# Altium footprint library con-yamaichi.PCBLIB: 44 footprints (part 2 of 3)
Each footprint in its own frame and in the unit in brackets; x right, y up, seen from the top. Pads: shape width x height; smd on the part's side, far side on the other; paste and mask are expansions set on the pad; w line width, h text height; cw(c..) or ccw(c..) is an arc to the next point about the centre after c.
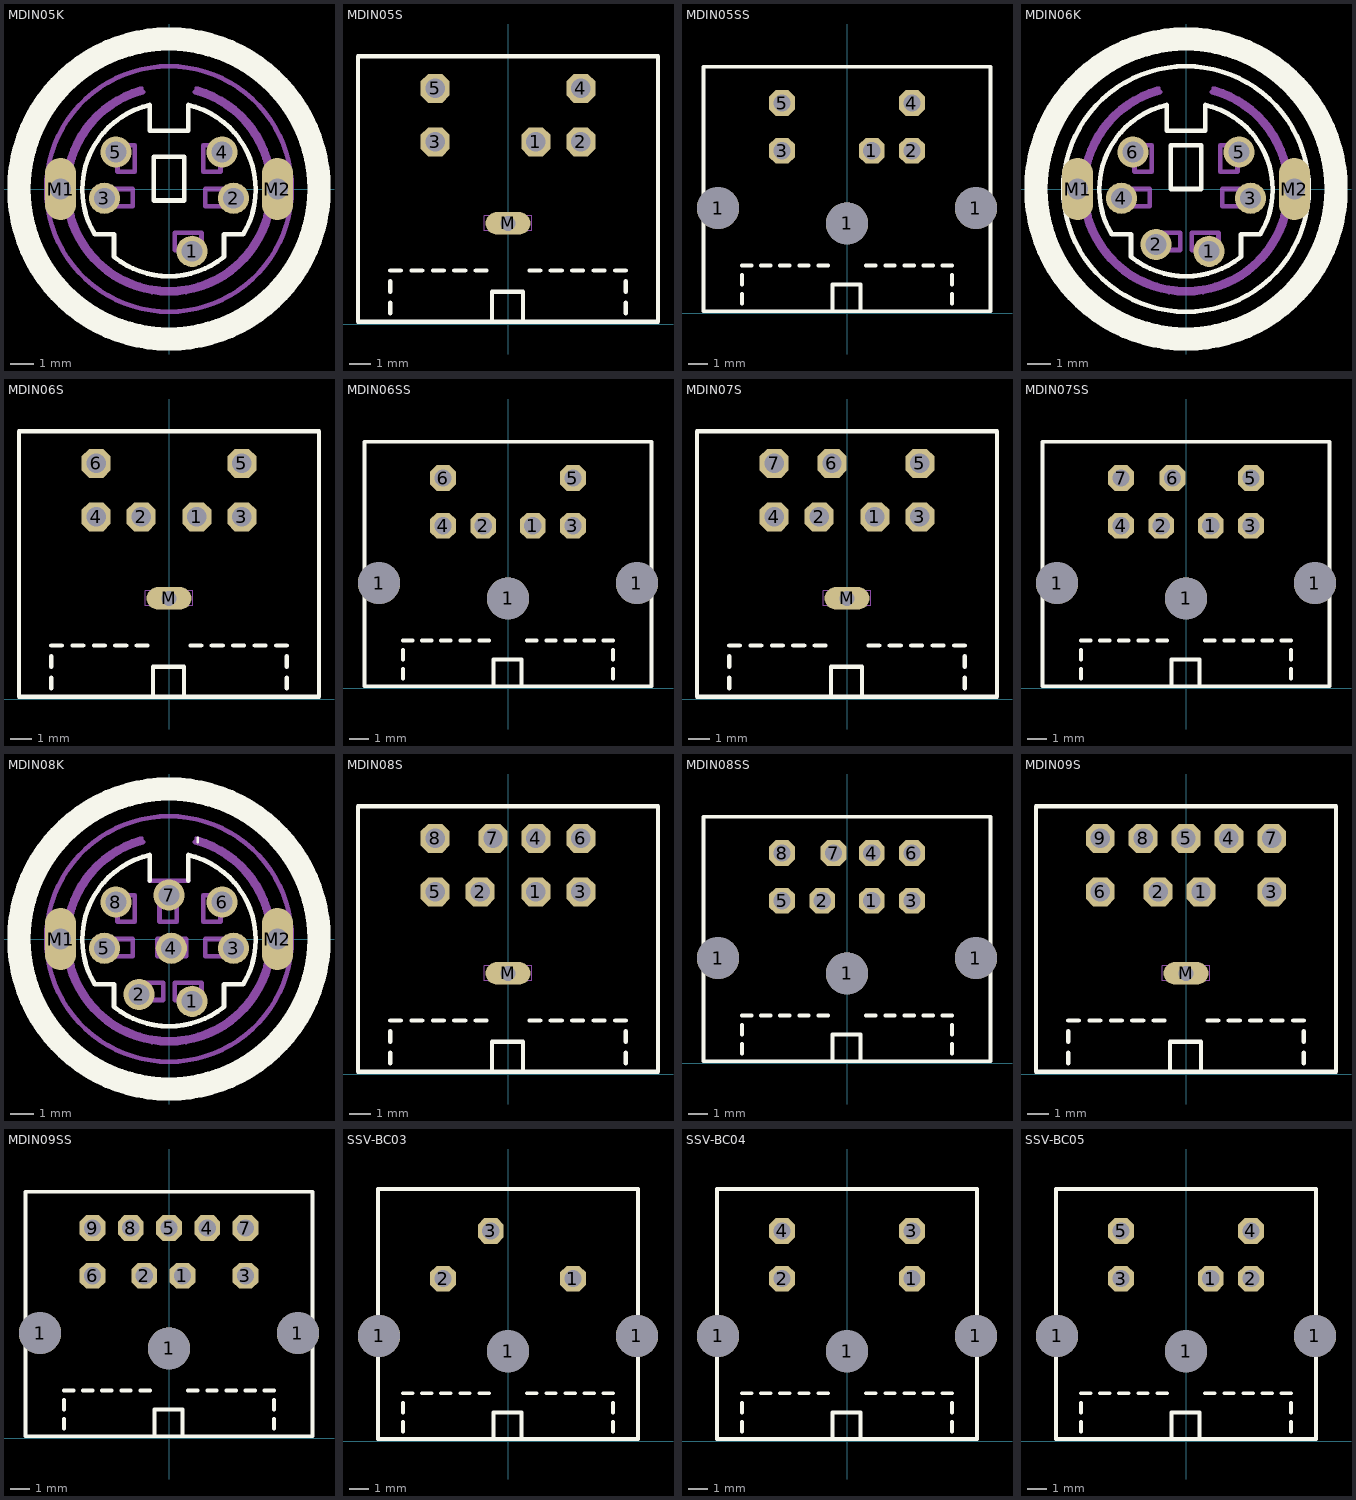
[diagram p1: the footprints below, top view; thin cyan lines are the x and y axes]

## MDIN05K [mm]
pads (7):
  round 1.35 hole 0.9: 1(1,-2.7) 2(2.8,-0.4) 3(-2.8,-0.4) 4(2.3,1.6) 5(-2.3,1.6)
  oval 1.35x2.7 hole 0.9: M1(-4.7,0) M2(4.7,0)
Top Overlay:
  circle w1.016: c0,0 r6.5
  lines w0.203: -3.22,-1.96 -2.38,-1.96 -2.38,-2.94 ccw(c0,0) 2.38,-2.94 2.38,-1.96 3.22,-1.96 ccw(c0,-0.023) 0.84,3.64 0.84,2.52 -0.84,2.52 -0.84,3.64 ccw(c0,-0.023) -3.22,-1.96 ; -0.662,-0.5 -0.662,1.402 0.662,1.402 0.662,-0.5 -0.662,-0.5
Mechanical 16:
  circle w0.203: c0,0 r5.32
  lines w0.102: -1.25,4.2 -1.25,4.4 -1.15,4.4 -1.15,4.15 ; 1.15,4.15 1.15,4.4 1.25,4.4 1.25,4.2
  lines w0.203: -1.26,4.34 ccw(c0,0) 1.26,4.34 ; -1.12,4.2 ccw(c0,0) 1.12,4.2 ; -2.729,-0.744 -1.571,-0.744 -1.571,0 -2.729,0 -2.729,-0.744 ; -2.233,0.744 -2.233,1.902 -1.489,1.902 -1.489,0.744 -2.233,0.744 ; 0.248,-2.646 1.406,-2.646 1.406,-1.902 0.248,-1.902 0.248,-2.646 ; 1.489,0.744 1.489,1.902 2.233,1.902 2.233,0.744 1.489,0.744 ; 1.571,-0.744 2.729,-0.744 2.729,0 1.571,0 1.571,-0.744

## MDIN05S [mm]
pads (6):
  oct 1.35x1.35 hole 0.9: 1(1.3,8.5) 2(3.4,8.5) 3(-3.4,8.5) 4(3.4,11) 5(-3.4,11)
  oval 2.1x1.05 hole 0.7: M(0,4.7)
Top Overlay:
  lines w0.203: -5.5,0.5 -5.5,1 ; -5.5,1.5 -5.5,2 ; -5.5,2.5 -5,2.5 ; -4.5,2.5 -4,2.5 ; -3.5,2.5 -3,2.5 ; -2.5,2.5 -2,2.5 ; -1.5,2.5 -1,2.5 ; -0.75,0.1 -0.75,1.5 0.7,1.5 0.7,0.1 ; 1,2.5 1.5,2.5 ; 2,2.5 2.5,2.5 ; 3,2.5 3.5,2.5 ; 4,2.5 4.5,2.5 ; 5,2.5 5.5,2.5 ; 5.5,0.5 5.5,1 ; 5.5,1.5 5.5,2 ; -7,0.1 7,0.1 7,12.5 -7,12.5 -7,0.1
Mechanical 11:
  lines w0: -1.1,4.35 1.1,4.35 1.1,5.05 -1.1,5.05 -1.1,4.35

## MDIN05SS [mm]
pads (8):
  round 2.2 hole 2.2: 1(-6.75,5.5) 1(0,4.7) 1(6.75,5.5)
  oct 1.35x1.35 hole 0.9: 1(1.3,8.5) 2(3.4,8.5) 3(-3.4,8.5) 4(3.4,11) 5(-3.4,11)
Top Overlay:
  lines w0.203: -5.5,0.5 -5.5,1 ; -5.5,1.5 -5.5,2 ; -5.5,2.5 -5,2.5 ; -4.5,2.5 -4,2.5 ; -3.5,2.5 -3,2.5 ; -2.5,2.5 -2,2.5 ; -1.5,2.5 -1,2.5 ; -0.75,0.1 -0.75,1.5 0.7,1.5 0.7,0.1 ; 1,2.5 1.5,2.5 ; 2,2.5 2.5,2.5 ; 3,2.5 3.5,2.5 ; 4,2.5 4.5,2.5 ; 5,2.5 5.5,2.5 ; 5.5,0.5 5.5,1 ; 5.5,1.5 5.5,2 ; -7.5,0.1 7.5,0.1 7.5,12.9 -7.5,12.9 -7.5,0.1

## MDIN06K [mm]
pads (8):
  round 1.35 hole 0.9: 1(1,-2.7) 2(-1.3,-2.4) 3(2.8,-0.4) 4(-2.8,-0.4) 5(2.3,1.6) 6(-2.3,1.6)
  oval 1.35x2.7 hole 0.9: M1(-4.7,0) M2(4.7,0)
Top Overlay:
  circle w1.016: c0,0 r6.5
  circle w0.203: c0,0 r5.32
  lines w0.203: -3.22,-1.96 -2.38,-1.96 -2.38,-2.94 ccw(c0,0) 2.38,-2.94 2.38,-1.96 3.22,-1.96 ccw(c0,-0.023) 0.84,3.64 0.84,2.52 -0.84,2.52 -0.84,3.64 ccw(c0,-0.023) -3.22,-1.96 ; -0.662,0 -0.662,1.902 0.662,1.902 0.662,0 -0.662,0
Mechanical 16:
  lines w0.102: -1.25,4.2 -1.25,4.4 -1.15,4.4 -1.15,4.15 ; 1.15,4.15 1.15,4.4 1.25,4.4 1.25,4.2
  lines w0.203: -1.26,4.34 ccw(c0,0) 1.26,4.34 ; -1.12,4.2 ccw(c0,0) 1.12,4.2 ; -2.729,-0.744 -1.571,-0.744 -1.571,0 -2.729,0 -2.729,-0.744 ; -2.233,0.744 -2.233,1.902 -1.489,1.902 -1.489,0.744 -2.233,0.744 ; -1.489,-2.646 -0.248,-2.646 -0.248,-1.902 -1.489,-1.902 -1.489,-2.646 ; 0.248,-2.646 1.406,-2.646 1.406,-1.902 0.248,-1.902 0.248,-2.646 ; 1.489,0.744 1.489,1.902 2.233,1.902 2.233,0.744 1.489,0.744 ; 1.571,-0.744 2.729,-0.744 2.729,0 1.571,0 1.571,-0.744

## MDIN06S [mm]
pads (7):
  oct 1.35x1.35 hole 0.9: 1(1.3,8.5) 2(-1.3,8.5) 3(3.4,8.5) 4(-3.4,8.5) 5(3.4,11) 6(-3.4,11)
  oval 2.1x1.05 hole 0.7: M(0,4.7)
Top Overlay:
  lines w0.203: -5.5,0.5 -5.5,1 ; -5.5,1.5 -5.5,2 ; -5.5,2.5 -5,2.5 ; -4.5,2.5 -4,2.5 ; -3.5,2.5 -3,2.5 ; -2.5,2.5 -2,2.5 ; -1.5,2.5 -1,2.5 ; -0.75,0.1 -0.75,1.5 0.7,1.5 0.7,0.1 ; 1,2.5 1.5,2.5 ; 2,2.5 2.5,2.5 ; 3,2.5 3.5,2.5 ; 4,2.5 4.5,2.5 ; 5,2.5 5.5,2.5 ; 5.5,0.5 5.5,1 ; 5.5,1.5 5.5,2 ; -7,0.1 7,0.1 7,12.5 -7,12.5 -7,0.1
Mechanical 11:
  lines w0: -1.1,4.35 1.1,4.35 1.1,5.05 -1.1,5.05 -1.1,4.35

## MDIN06SS [mm]
pads (9):
  round 2.2 hole 2.2: 1(-6.75,5.5) 1(0,4.7) 1(6.75,5.5)
  oct 1.35x1.35 hole 0.9: 1(1.3,8.5) 2(-1.3,8.5) 3(3.4,8.5) 4(-3.4,8.5) 5(3.4,11) 6(-3.4,11)
Top Overlay:
  lines w0.203: -5.5,0.5 -5.5,1 ; -5.5,1.5 -5.5,2 ; -5.5,2.5 -5,2.5 ; -4.5,2.5 -4,2.5 ; -3.5,2.5 -3,2.5 ; -2.5,2.5 -2,2.5 ; -1.5,2.5 -1,2.5 ; -0.75,0.1 -0.75,1.5 0.7,1.5 0.7,0.1 ; 1,2.5 1.5,2.5 ; 2,2.5 2.5,2.5 ; 3,2.5 3.5,2.5 ; 4,2.5 4.5,2.5 ; 5,2.5 5.5,2.5 ; 5.5,0.5 5.5,1 ; 5.5,1.5 5.5,2 ; -7.5,0.1 7.5,0.1 7.5,12.9 -7.5,12.9 -7.5,0.1

## MDIN07S [mm]
pads (8):
  oct 1.35x1.35 hole 0.9: 1(1.3,8.5) 2(-1.3,8.5) 3(3.4,8.5) 4(-3.4,8.5) 5(3.4,11) 6(-0.7,11) 7(-3.4,11)
  oval 2.1x1.05 hole 0.7: M(0,4.7)
Top Overlay:
  lines w0.203: -5.5,0.5 -5.5,1 ; -5.5,1.5 -5.5,2 ; -5.5,2.5 -5,2.5 ; -4.5,2.5 -4,2.5 ; -3.5,2.5 -3,2.5 ; -2.5,2.5 -2,2.5 ; -1.5,2.5 -1,2.5 ; -0.75,0.1 -0.75,1.5 0.7,1.5 0.7,0.1 ; 1,2.5 1.5,2.5 ; 2,2.5 2.5,2.5 ; 3,2.5 3.5,2.5 ; 4,2.5 4.5,2.5 ; 5,2.5 5.5,2.5 ; 5.5,0.5 5.5,1 ; 5.5,1.5 5.5,2 ; -7,0.1 7,0.1 7,12.5 -7,12.5 -7,0.1
Mechanical 11:
  lines w0: -1.1,4.35 1.1,4.35 1.1,5.05 -1.1,5.05 -1.1,4.35

## MDIN07SS [mm]
pads (10):
  round 2.2 hole 2.2: 1(-6.75,5.5) 1(0,4.7) 1(6.75,5.5)
  oct 1.35x1.35 hole 0.9: 1(1.3,8.5) 2(-1.3,8.5) 3(3.4,8.5) 4(-3.4,8.5) 5(3.4,11) 6(-0.7,11) 7(-3.4,11)
Top Overlay:
  lines w0.203: -5.5,0.5 -5.5,1 ; -5.5,1.5 -5.5,2 ; -5.5,2.5 -5,2.5 ; -4.5,2.5 -4,2.5 ; -3.5,2.5 -3,2.5 ; -2.5,2.5 -2,2.5 ; -1.5,2.5 -1,2.5 ; -0.75,0.1 -0.75,1.5 0.7,1.5 0.7,0.1 ; 1,2.5 1.5,2.5 ; 2,2.5 2.5,2.5 ; 3,2.5 3.5,2.5 ; 4,2.5 4.5,2.5 ; 5,2.5 5.5,2.5 ; 5.5,0.5 5.5,1 ; 5.5,1.5 5.5,2 ; -7.5,0.1 7.5,0.1 7.5,12.9 -7.5,12.9 -7.5,0.1

## MDIN08K [mm]
pads (10):
  round 1.35 hole 0.9: 1(1,-2.7) 2(-1.3,-2.4) 3(2.8,-0.4) 4(0.1,-0.4) 5(-2.8,-0.4) 6(2.3,1.6) 7(0,1.9) 8(-2.3,1.6)
  oval 1.35x2.7 hole 0.9: M1(-4.7,0) M2(4.7,0)
Top Overlay:
  circle w1.016: c0,0 r6.5
  lines w0.102: 1.25,4.2 1.25,4.4
  lines w0.203: -0.84,2.52 -0.84,3.64 ccw(c0,-0.023) -3.22,-1.96 -2.38,-1.96 -2.38,-2.94 ccw(c0,0) 2.38,-2.94 2.38,-1.96 3.22,-1.96 ccw(c0,-0.023) 0.84,3.64 0.84,2.52
Mechanical 16:
  circle w0.203: c0,0 r5.32
  lines w0.102: -1.25,4.2 -1.25,4.4 -1.15,4.4 -1.15,4.15 ; 1.15,4.15 1.15,4.4 1.25,4.4
  lines w0.203: -1.26,4.34 ccw(c0,0) 1.26,4.34 ; -1.12,4.2 ccw(c0,0) 1.12,4.2 ; -0.84,2.52 0.84,2.52 ; -2.729,-0.744 -1.571,-0.744 -1.571,0 -2.729,0 -2.729,-0.744 ; -2.233,0.744 -2.233,1.902 -1.489,1.902 -1.489,0.744 -2.233,0.744 ; -1.489,-2.646 -0.248,-2.646 -0.248,-1.902 -1.489,-1.902 -1.489,-2.646 ; -0.496,-0.744 0.744,-0.744 0.744,0 -0.496,0 -0.496,-0.744 ; -0.414,0.744 -0.414,1.902 0.331,1.902 0.331,0.744 -0.414,0.744 ; 0.248,-2.646 1.406,-2.646 1.406,-1.902 0.248,-1.902 0.248,-2.646 ; 1.489,0.744 1.489,1.902 2.233,1.902 2.233,0.744 1.489,0.744 ; 1.571,-0.744 2.729,-0.744 2.729,0 1.571,0 1.571,-0.744

## MDIN08S [mm]
pads (9):
  oct 1.35x1.35 hole 0.9: 1(1.3,8.5) 2(-1.3,8.5) 3(3.4,8.5) 4(1.3,11) 5(-3.4,8.5) 6(3.4,11) 7(-0.7,11) 8(-3.4,11)
  oval 2.1x1.05 hole 0.7: M(0,4.7)
Top Overlay:
  lines w0.203: -5.5,0.5 -5.5,1 ; -5.5,1.5 -5.5,2 ; -5.5,2.5 -5,2.5 ; -4.5,2.5 -4,2.5 ; -3.5,2.5 -3,2.5 ; -2.5,2.5 -2,2.5 ; -1.5,2.5 -1,2.5 ; -0.75,0.1 -0.75,1.5 0.7,1.5 0.7,0.1 ; 1,2.5 1.5,2.5 ; 2,2.5 2.5,2.5 ; 3,2.5 3.5,2.5 ; 4,2.5 4.5,2.5 ; 5,2.5 5.5,2.5 ; 5.5,0.5 5.5,1 ; 5.5,1.5 5.5,2 ; -7,0.1 7,0.1 7,12.5 -7,12.5 -7,0.1
Mechanical 11:
  lines w0: -1.1,4.35 1.1,4.35 1.1,5.05 -1.1,5.05 -1.1,4.35

## MDIN08SS [mm]
pads (11):
  round 2.2 hole 2.2: 1(-6.75,5.5) 1(0,4.7) 1(6.75,5.5)
  oct 1.35x1.35 hole 0.9: 1(1.3,8.5) 2(-1.3,8.5) 3(3.4,8.5) 4(1.3,11) 5(-3.4,8.5) 6(3.4,11) 7(-0.7,11) 8(-3.4,11)
Top Overlay:
  lines w0.203: -5.5,0.5 -5.5,1 ; -5.5,1.5 -5.5,2 ; -5.5,2.5 -5,2.5 ; -4.5,2.5 -4,2.5 ; -3.5,2.5 -3,2.5 ; -2.5,2.5 -2,2.5 ; -1.5,2.5 -1,2.5 ; -0.75,0.1 -0.75,1.5 0.7,1.5 0.7,0.1 ; 1,2.5 1.5,2.5 ; 2,2.5 2.5,2.5 ; 3,2.5 3.5,2.5 ; 4,2.5 4.5,2.5 ; 5,2.5 5.5,2.5 ; 5.5,0.5 5.5,1 ; 5.5,1.5 5.5,2 ; -7.5,0.1 7.5,0.1 7.5,12.9 -7.5,12.9 -7.5,0.1

## MDIN09S [mm]
pads (10):
  oct 1.35x1.35 hole 0.9: 1(0.7,8.5) 2(-1.3,8.5) 3(4,8.5) 4(2,11) 5(0,11) 6(-4,8.5) 7(4,11) 8(-2,11) 9(-4,11)
  oval 2.1x1.05 hole 0.7: M(0,4.7)
Top Overlay:
  lines w0.203: -5.5,0.5 -5.5,1 ; -5.5,1.5 -5.5,2 ; -5.5,2.5 -5,2.5 ; -4.5,2.5 -4,2.5 ; -3.5,2.5 -3,2.5 ; -2.5,2.5 -2,2.5 ; -1.5,2.5 -1,2.5 ; -0.75,0.1 -0.75,1.5 0.7,1.5 0.7,0.1 ; 1,2.5 1.5,2.5 ; 2,2.5 2.5,2.5 ; 3,2.5 3.5,2.5 ; 4,2.5 4.5,2.5 ; 5,2.5 5.5,2.5 ; 5.5,0.5 5.5,1 ; 5.5,1.5 5.5,2 ; -7,0.1 7,0.1 7,12.5 -7,12.5 -7,0.1
Mechanical 11:
  lines w0: -1.1,4.35 1.1,4.35 1.1,5.05 -1.1,5.05 -1.1,4.35

## MDIN09SS [mm]
pads (12):
  round 2.2 hole 2.2: 1(-6.75,5.5) 1(0,4.7) 1(6.75,5.5)
  oct 1.35x1.35 hole 0.9: 1(0.7,8.5) 2(-1.3,8.5) 3(4,8.5) 4(2,11) 5(0,11) 6(-4,8.5) 7(4,11) 8(-2,11) 9(-4,11)
Top Overlay:
  lines w0.203: -5.5,0.5 -5.5,1 ; -5.5,1.5 -5.5,2 ; -5.5,2.5 -5,2.5 ; -4.5,2.5 -4,2.5 ; -3.5,2.5 -3,2.5 ; -2.5,2.5 -2,2.5 ; -1.5,2.5 -1,2.5 ; -0.75,0.1 -0.75,1.5 0.7,1.5 0.7,0.1 ; 1,2.5 1.5,2.5 ; 2,2.5 2.5,2.5 ; 3,2.5 3.5,2.5 ; 4,2.5 4.5,2.5 ; 5,2.5 5.5,2.5 ; 5.5,0.5 5.5,1 ; 5.5,1.5 5.5,2 ; -7.5,0.1 7.5,0.1 7.5,12.9 -7.5,12.9 -7.5,0.1

## SSV-BC03 [mm]
pads (6):
  round 2.2 hole 2.2: 1(-6.75,5.5) 1(0,4.7) 1(6.75,5.5)
  oct 1.35x1.35 hole 0.9: 1(3.4,8.5) 2(-3.4,8.5) 3(-0.9,11)
Top Overlay:
  lines w0.203: -5.5,0.5 -5.5,1 ; -5.5,1.5 -5.5,2 ; -5.5,2.5 -5,2.5 ; -4.5,2.5 -4,2.5 ; -3.5,2.5 -3,2.5 ; -2.5,2.5 -2,2.5 ; -1.5,2.5 -1,2.5 ; -0.75,0.1 -0.75,1.5 0.7,1.5 0.7,0.1 ; 1,2.5 1.5,2.5 ; 2,2.5 2.5,2.5 ; 3,2.5 3.5,2.5 ; 4,2.5 4.5,2.5 ; 5,2.5 5.5,2.5 ; 5.5,0.5 5.5,1 ; 5.5,1.5 5.5,2 ; -6.8,0.1 6.8,0.1 6.8,13.2 -6.8,13.2 -6.8,0.1

## SSV-BC04 [mm]
pads (7):
  round 2.2 hole 2.2: 1(-6.75,5.5) 1(0,4.7) 1(6.75,5.5)
  oct 1.35x1.35 hole 0.9: 1(3.4,8.5) 2(-3.4,8.5) 3(3.4,11) 4(-3.4,11)
Top Overlay:
  lines w0.203: -5.5,0.5 -5.5,1 ; -5.5,1.5 -5.5,2 ; -5.5,2.5 -5,2.5 ; -4.5,2.5 -4,2.5 ; -3.5,2.5 -3,2.5 ; -2.5,2.5 -2,2.5 ; -1.5,2.5 -1,2.5 ; -0.75,0.1 -0.75,1.5 0.7,1.5 0.7,0.1 ; 1,2.5 1.5,2.5 ; 2,2.5 2.5,2.5 ; 3,2.5 3.5,2.5 ; 4,2.5 4.5,2.5 ; 5,2.5 5.5,2.5 ; 5.5,0.5 5.5,1 ; 5.5,1.5 5.5,2 ; -6.8,0.1 6.8,0.1 6.8,13.2 -6.8,13.2 -6.8,0.1

## SSV-BC05 [mm]
pads (8):
  round 2.2 hole 2.2: 1(-6.75,5.5) 1(0,4.7) 1(6.75,5.5)
  oct 1.35x1.35 hole 0.9: 1(1.3,8.5) 2(3.4,8.5) 3(-3.4,8.5) 4(3.4,11) 5(-3.4,11)
Top Overlay:
  lines w0.203: -5.5,0.5 -5.5,1 ; -5.5,1.5 -5.5,2 ; -5.5,2.5 -5,2.5 ; -4.5,2.5 -4,2.5 ; -3.5,2.5 -3,2.5 ; -2.5,2.5 -2,2.5 ; -1.5,2.5 -1,2.5 ; -0.75,0.1 -0.75,1.5 0.7,1.5 0.7,0.1 ; 1,2.5 1.5,2.5 ; 2,2.5 2.5,2.5 ; 3,2.5 3.5,2.5 ; 4,2.5 4.5,2.5 ; 5,2.5 5.5,2.5 ; 5.5,0.5 5.5,1 ; 5.5,1.5 5.5,2 ; -6.8,0.1 6.8,0.1 6.8,13.2 -6.8,13.2 -6.8,0.1